# Altium schematic symbol library RN2483_breakout_lib.SchLib: 1 symbol
Pins are listed as number, name and electrical type; pins without a type are passive.

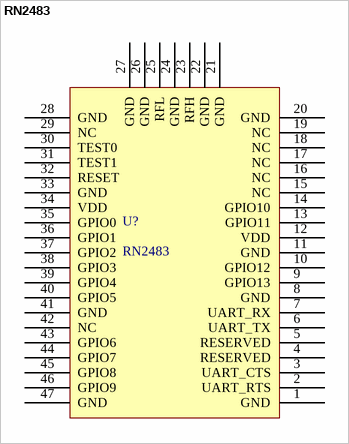
[diagram p0: symbol RN2483]

## RN2483
designator U?
RN2483 - Microchip
footprint RN2483 (RN2483_MICROCHIP)
pins: 1 GND, 2 UART_RTS, 3 UART_CTS, 4 RESERVED, 5 RESERVED, 6 UART_TX, 7 UART_RX, 8 GND, 9 GPIO13, 10 GPIO12, 11 GND, 12 VDD, 13 GPIO11, 14 GPIO10, 15 NC, 16 NC, 17 NC, 18 NC, 19 NC, 20 GND, 21 GND, 22 GND, 23 RFH, 24 GND, 25 RFL, 26 GND, 27 GND, 28 GND, 29 NC, 30 TEST0, 31 TEST1, 32 RESET, 33 GND, 34 VDD, 35 GPIO0, 36 GPIO1, 37 GPIO2, 38 GPIO3, 39 GPIO4, 40 GPIO5, 41 GND, 42 NC, 43 GPIO6, 44 GPIO7, 45 GPIO8, 46 GPIO9, 47 GND